# Altium integrated library BM06B-SRSS-TB_LF__SN_.IntLib: 1 symbol
Pins are listed as number, name and electrical type; pins without a type are passive.

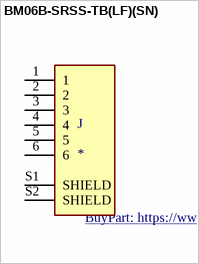
[diagram p0: symbol BM06B-SRSS-TB(LF)(SN)]

## BM06B-SRSS-TB(LF)(SN)
designator J
Connector Header Surface Mount 6 position 0.039 (1.00mm); MP: BM06B-SRSS-TB(LF)(SN); MF: JST Sales; Price: None; Availability: Unavailable; SnapEDA_Link: https://www.snapeda.com/parts/BM06B-SRSS-TB(LF)(SN)/JST%20Sales%20America%20Inc./view-part/317877/?ref=snap; Value: *; Package: None; BuyPart: https://www.snapeda.com/parts/BM06B-SRSS-TB(LF)(SN)/JST%20Sales%20America%20Inc./view-part/317877/?ref=eda
footprint JST_BM06B-SRSS-TB(LF)(SN)
pins: 1, 2, 3, 4, 5, 6, S1 SHIELD, S2 SHIELD